# EAGLE library part AD818 (library Radicon)
AD818 Low Cost, Low Power Video Op Amp
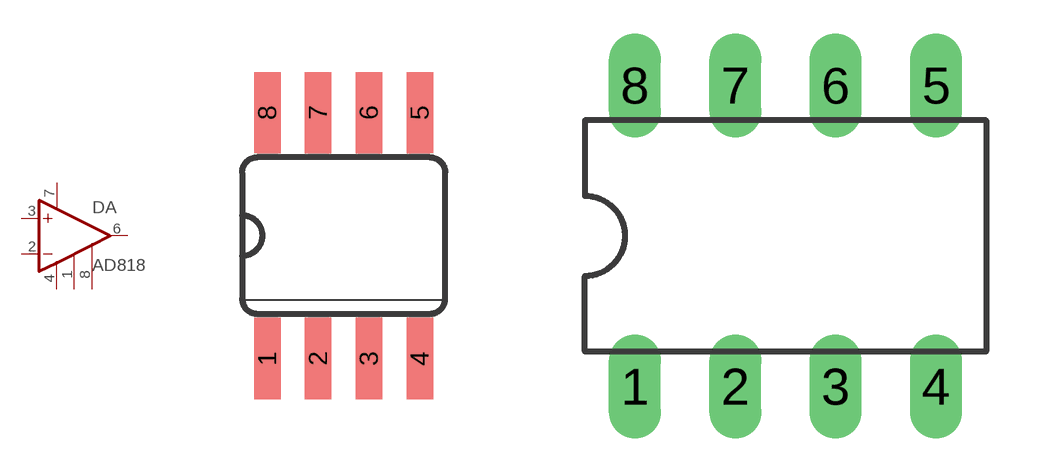
[diagram p39: symbol with the pads of SO08; footprints SO08, DIL08]

Designator prefix DA

## AD818R  [SO08]
1  N1
2  -IN  in
3  +IN  in
4  V-
6  OUT  out
7  V+
8  N2

## AD818N  [DIL08]
Pads as for SO08

## Footprint SO08 (pad centres in mm)
Small Outline package 8 150 mil
smd 0.66 x 2.032: 1 -1.905,-3.073; 2 -0.635,-3.073; 3 0.635,-3.073; 4 1.905,-3.073; 5 1.905,3.073; 6 0.635,3.073; 7 -0.635,3.073; 8 -1.905,3.073

## Footprint DIL08 (pad centres in mm)
Dual In Line Package
drill 0.813 long: 1 -3.81,-3.81; 2 -1.27,-3.81; 3 1.27,-3.81; 4 3.81,-3.81; 5 3.81,3.81; 6 1.27,3.81; 7 -1.27,3.81; 8 -3.81,3.81